# Altium footprint library PinHeader.PcbLib: 118 footprints (part 8 of 8)
Each footprint in its own frame and in the unit in brackets; x right, y up, seen from the top. Pads: shape width x height; smd on the part's side, far side on the other; paste and mask are expansions set on the pad; w line width, h text height; cw(c..) or ccw(c..) is an arc to the next point about the centre after c.
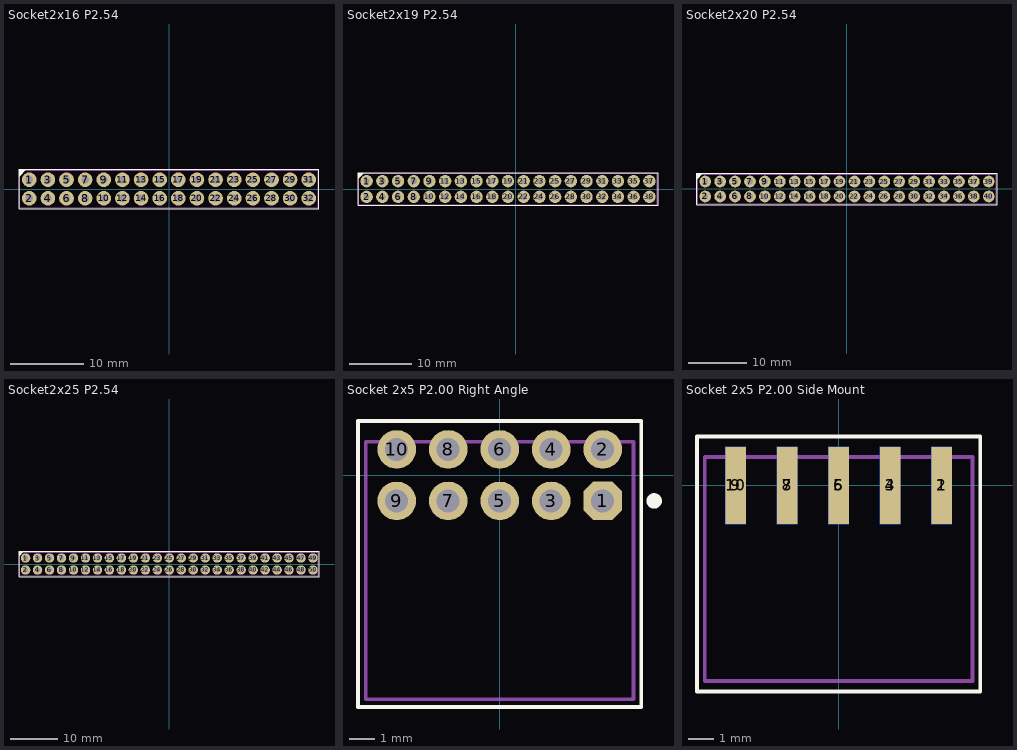
[diagram p7: the footprints below, top view; thin cyan lines are the x and y axes]

## Socket2x16 P2.54 [mm] "Receptacle connector"
height 7
pads (32):
  round 2 hole 1: 1(-19.05,1.27) 2(-19.05,-1.27) 3(-16.51,1.27) 4(-16.51,-1.27) 5(-13.97,1.27) 6(-13.97,-1.27) 7(-11.43,1.27) 8(-11.43,-1.27) 9(-8.89,1.27) 10(-8.89,-1.27) 11(-6.35,1.27) 12(-6.35,-1.27) 13(-3.81,1.27) 14(-3.81,-1.27) 15(-1.27,1.27) 16(-1.27,-1.27) 17(1.27,1.27) 18(1.27,-1.27) 19(3.81,1.27) 20(3.81,-1.27) 21(6.35,1.27) 22(6.35,-1.27) 23(8.89,1.27) 24(8.89,-1.27) 25(11.43,1.27) 26(11.43,-1.27) 27(13.97,1.27) 28(13.97,-1.27) 29(16.51,1.27) 30(16.51,-1.27) 31(19.05,1.27) 32(19.05,-1.27)
Top Overlay:
  region: -20.447,2.667 -19.431,2.667 -20.447,1.651
  lines w0.15: -20.447,-2.667 20.447,-2.667 20.447,2.667 -20.447,2.667 -20.447,-2.667
Mechanical 13:
  lines w0.15: -20.32,-2.54 -20.32,2.54 20.32,2.54 20.32,-2.54 -20.32,-2.54
3D body: height 0, standoff -2.5, extent 18.75,-1.57 19.35,-0.97
3D body: height 0, standoff -2.5, extent 16.21,-1.57 16.81,-0.97
3D body: height 0, standoff -2.5, extent 13.67,-1.57 14.27,-0.97
3D body: height 0, standoff -2.5, extent 11.13,-1.57 11.73,-0.97
3D body: height 0, standoff -2.5, extent 8.59,-1.57 9.19,-0.97
3D body: height 0, standoff -2.5, extent 6.05,-1.57 6.65,-0.97
3D body: height 0, standoff -2.5, extent 3.51,-1.57 4.11,-0.97
3D body: height 0, standoff -2.5, extent 0.97,-1.57 1.57,-0.97
3D body: height 0, standoff -2.5, extent -1.57,-1.57 -0.97,-0.97
3D body: height 0, standoff -2.5, extent -4.11,-1.57 -3.51,-0.97
3D body: height 0, standoff -2.5, extent -6.65,-1.57 -6.05,-0.97
3D body: height 0, standoff -2.5, extent -9.19,-1.57 -8.59,-0.97
3D body: height 0, standoff -2.5, extent -11.73,-1.57 -11.13,-0.97
3D body: height 0, standoff -2.5, extent -14.27,-1.57 -13.67,-0.97
3D body: height 0, standoff -2.5, extent -16.81,-1.57 -16.21,-0.97
3D body: height 0, standoff -2.5, extent -19.35,-1.57 -18.75,-0.97
3D body: height 0, standoff -2.5, extent 18.75,0.97 19.35,1.57
3D body: height 0, standoff -2.5, extent 16.21,0.97 16.81,1.57
3D body: height 0, standoff -2.5, extent 13.67,0.97 14.27,1.57
3D body: height 0, standoff -2.5, extent 11.13,0.97 11.73,1.57
3D body: height 0, standoff -2.5, extent 8.59,0.97 9.19,1.57
3D body: height 0, standoff -2.5, extent 6.05,0.97 6.65,1.57
3D body: height 0, standoff -2.5, extent 3.51,0.97 4.11,1.57
3D body: height 0, standoff -2.5, extent 0.97,0.97 1.57,1.57
3D body: height 0, standoff -2.5, extent -1.57,0.97 -0.97,1.57
3D body: height 0, standoff -2.5, extent -4.11,0.97 -3.51,1.57
3D body: height 0, standoff -2.5, extent -6.65,0.97 -6.05,1.57
3D body: height 0, standoff -2.5, extent -9.19,0.97 -8.59,1.57
3D body: height 0, standoff -2.5, extent -11.73,0.97 -11.13,1.57
3D body: height 0, standoff -2.5, extent -14.27,0.97 -13.67,1.57
3D body: height 0, standoff -2.5, extent -16.81,0.97 -16.21,1.57
3D body: height 0, standoff -2.5, extent -19.35,0.97 -18.75,1.57
3D body: height 7.01, standoff 0, extent 18.3,-2.02 19.8,-0.52
3D body: height 7.01, standoff 0, extent 15.76,-2.02 17.26,-0.52
3D body: height 7.01, standoff 0, extent 13.22,-2.02 14.72,-0.52
3D body: height 7.01, standoff 0, extent 10.68,-2.02 12.18,-0.52
3D body: height 7.01, standoff 0, extent 8.14,-2.02 9.64,-0.52
3D body: height 7.01, standoff 0, extent 5.6,-2.02 7.1,-0.52
3D body: height 7.01, standoff 0, extent 3.06,-2.02 4.56,-0.52
3D body: height 7.01, standoff 0, extent 0.52,-2.02 2.02,-0.52
3D body: height 7.01, standoff 0, extent -2.02,-2.02 -0.52,-0.52
3D body: height 7.01, standoff 0, extent -4.56,-2.02 -3.06,-0.52
3D body: height 7.01, standoff 0, extent -7.1,-2.02 -5.6,-0.52
3D body: height 7.01, standoff 0, extent -9.64,-2.02 -8.14,-0.52
3D body: height 7.01, standoff 0, extent -12.18,-2.02 -10.68,-0.52
3D body: height 7.01, standoff 0, extent -14.72,-2.02 -13.22,-0.52
3D body: height 7.01, standoff 0, extent -17.26,-2.02 -15.76,-0.52
3D body: height 7.01, standoff 0, extent -19.8,-2.02 -18.3,-0.52
3D body: height 7.01, standoff 0, extent 18.3,0.52 19.8,2.02
3D body: height 7.01, standoff 0, extent 15.76,0.52 17.26,2.02
3D body: height 7.01, standoff 0, extent 13.22,0.52 14.72,2.02
3D body: height 7.01, standoff 0, extent 10.68,0.52 12.18,2.02
3D body: height 7.01, standoff 0, extent 8.14,0.52 9.64,2.02
3D body: height 7.01, standoff 0, extent 5.6,0.52 7.1,2.02
3D body: height 7.01, standoff 0, extent 3.06,0.52 4.56,2.02
3D body: height 7.01, standoff 0, extent 0.52,0.52 2.02,2.02
3D body: height 7.01, standoff 0, extent -2.02,0.52 -0.52,2.02
3D body: height 7.01, standoff 0, extent -4.56,0.52 -3.06,2.02
3D body: height 7.01, standoff 0, extent -7.1,0.52 -5.6,2.02
3D body: height 7.01, standoff 0, extent -9.64,0.52 -8.14,2.02
3D body: height 7.01, standoff 0, extent -12.18,0.52 -10.68,2.02
3D body: height 7.01, standoff 0, extent -14.72,0.52 -13.22,2.02
3D body: height 7.01, standoff 0, extent -17.26,0.52 -15.76,2.02
3D body: height 7.01, standoff 0, extent -19.8,0.52 -18.3,2.02
3D body: height 7, standoff 0, extent -20.32,-2.54 20.32,2.54

## Socket2x19 P2.54 [mm] "Receptacle connector"
height 7
pads (38):
  round 2 hole 1: 1(-24.13,1.27) 2(-24.13,-1.27) 3(-21.59,1.27) 4(-21.59,-1.27) 5(-19.05,1.27) 6(-19.05,-1.27) 7(-16.51,1.27) 8(-16.51,-1.27) 9(-13.97,1.27) 10(-13.97,-1.27) 11(-11.43,1.27) 12(-11.43,-1.27) 13(-8.89,1.27) 14(-8.89,-1.27) 15(-6.35,1.27) 16(-6.35,-1.27) 17(-3.81,1.27) 18(-3.81,-1.27) 19(-1.27,1.27) 20(-1.27,-1.27) 21(1.27,1.27) 22(1.27,-1.27) 23(3.81,1.27) 24(3.81,-1.27) 25(6.35,1.27) 26(6.35,-1.27) 27(8.89,1.27) 28(8.89,-1.27) 29(11.43,1.27) 30(11.43,-1.27) 31(13.97,1.27) 32(13.97,-1.27) 33(16.51,1.27) 34(16.51,-1.27) 35(19.05,1.27) 36(19.05,-1.27) 37(21.59,1.27) 38(21.59,-1.27)
Top Overlay:
  region: -25.527,2.667 -24.511,2.667 -25.527,1.651
  lines w0.15: -25.527,-2.667 -25.527,2.667 22.987,2.667 22.987,-2.667 -25.527,-2.667
Mechanical 13:
  lines w0.15: -25.4,-2.54 22.86,-2.54 22.86,2.54 -25.4,2.54 -25.4,-2.54
3D body: height 7, standoff 0, extent -25.4,-2.54 22.86,2.54
3D body: height 7.01, standoff 0, extent -24.88,0.52 -23.38,2.02
3D body: height 7.01, standoff 0, extent -22.34,0.52 -20.84,2.02
3D body: height 7.01, standoff 0, extent -19.8,0.52 -18.3,2.02
3D body: height 7.01, standoff 0, extent -17.26,0.52 -15.76,2.02
3D body: height 7.01, standoff 0, extent -14.72,0.52 -13.22,2.02
3D body: height 7.01, standoff 0, extent -12.18,0.52 -10.68,2.02
3D body: height 7.01, standoff 0, extent -9.64,0.52 -8.14,2.02
3D body: height 7.01, standoff 0, extent -7.1,0.52 -5.6,2.02
3D body: height 7.01, standoff 0, extent -4.56,0.52 -3.06,2.02
3D body: height 7.01, standoff 0, extent -2.02,0.52 -0.52,2.02
3D body: height 7.01, standoff 0, extent 0.52,0.52 2.02,2.02
3D body: height 7.01, standoff 0, extent 3.06,0.52 4.56,2.02
3D body: height 7.01, standoff 0, extent 5.6,0.52 7.1,2.02
3D body: height 7.01, standoff 0, extent 8.14,0.52 9.64,2.02
3D body: height 7.01, standoff 0, extent 10.68,0.52 12.18,2.02
3D body: height 7.01, standoff 0, extent 13.22,0.52 14.72,2.02
3D body: height 7.01, standoff 0, extent -24.88,-2.02 -23.38,-0.52
3D body: height 7.01, standoff 0, extent -22.34,-2.02 -20.84,-0.52
3D body: height 7.01, standoff 0, extent -19.8,-2.02 -18.3,-0.52
3D body: height 7.01, standoff 0, extent -17.26,-2.02 -15.76,-0.52
3D body: height 7.01, standoff 0, extent -14.72,-2.02 -13.22,-0.52
3D body: height 7.01, standoff 0, extent -12.18,-2.02 -10.68,-0.52
3D body: height 7.01, standoff 0, extent -9.64,-2.02 -8.14,-0.52
3D body: height 7.01, standoff 0, extent -7.1,-2.02 -5.6,-0.52
3D body: height 7.01, standoff 0, extent -4.56,-2.02 -3.06,-0.52
3D body: height 7.01, standoff 0, extent -2.02,-2.02 -0.52,-0.52
3D body: height 7.01, standoff 0, extent 0.52,-2.02 2.02,-0.52
3D body: height 7.01, standoff 0, extent 3.06,-2.02 4.56,-0.52
3D body: height 7.01, standoff 0, extent 5.6,-2.02 7.1,-0.52
3D body: height 7.01, standoff 0, extent 8.14,-2.02 9.64,-0.52
3D body: height 7.01, standoff 0, extent 10.68,-2.02 12.18,-0.52
3D body: height 7.01, standoff 0, extent 13.22,-2.02 14.72,-0.52
3D body: height 0, standoff -2.5, extent -24.43,0.97 -23.83,1.57
3D body: height 0, standoff -2.5, extent -21.89,0.97 -21.29,1.57
3D body: height 0, standoff -2.5, extent -19.35,0.97 -18.75,1.57
3D body: height 0, standoff -2.5, extent -16.81,0.97 -16.21,1.57
3D body: height 0, standoff -2.5, extent -14.27,0.97 -13.67,1.57
3D body: height 0, standoff -2.5, extent -11.73,0.97 -11.13,1.57
3D body: height 0, standoff -2.5, extent -9.19,0.97 -8.59,1.57
3D body: height 0, standoff -2.5, extent -6.65,0.97 -6.05,1.57
3D body: height 0, standoff -2.5, extent -4.11,0.97 -3.51,1.57
3D body: height 0, standoff -2.5, extent -1.57,0.97 -0.97,1.57
3D body: height 0, standoff -2.5, extent 0.97,0.97 1.57,1.57
3D body: height 0, standoff -2.5, extent 3.51,0.97 4.11,1.57
3D body: height 0, standoff -2.5, extent 6.05,0.97 6.65,1.57
3D body: height 0, standoff -2.5, extent 8.59,0.97 9.19,1.57
3D body: height 0, standoff -2.5, extent 11.13,0.97 11.73,1.57
3D body: height 0, standoff -2.5, extent 13.67,0.97 14.27,1.57
3D body: height 0, standoff -2.5, extent -24.43,-1.57 -23.83,-0.97
3D body: height 0, standoff -2.5, extent -21.89,-1.57 -21.29,-0.97
3D body: height 0, standoff -2.5, extent -19.35,-1.57 -18.75,-0.97
3D body: height 0, standoff -2.5, extent -16.81,-1.57 -16.21,-0.97
3D body: height 0, standoff -2.5, extent -14.27,-1.57 -13.67,-0.97
3D body: height 0, standoff -2.5, extent -11.73,-1.57 -11.13,-0.97
3D body: height 0, standoff -2.5, extent -9.19,-1.57 -8.59,-0.97
3D body: height 0, standoff -2.5, extent -6.65,-1.57 -6.05,-0.97
3D body: height 0, standoff -2.5, extent -4.11,-1.57 -3.51,-0.97
3D body: height 0, standoff -2.5, extent -1.57,-1.57 -0.97,-0.97
3D body: height 0, standoff -2.5, extent 0.97,-1.57 1.57,-0.97
3D body: height 0, standoff -2.5, extent 3.51,-1.57 4.11,-0.97
3D body: height 0, standoff -2.5, extent 6.05,-1.57 6.65,-0.97
3D body: height 0, standoff -2.5, extent 8.59,-1.57 9.19,-0.97
3D body: height 0, standoff -2.5, extent 11.13,-1.57 11.73,-0.97
3D body: height 0, standoff -2.5, extent 13.67,-1.57 14.27,-0.97
3D body: height 7.01, standoff 0, extent 15.76,0.52 17.26,2.02
3D body: height 7.01, standoff 0, extent 18.3,0.52 19.8,2.02
3D body: height 7.01, standoff 0, extent 20.84,0.52 22.34,2.02
3D body: height 7.01, standoff 0, extent 15.76,-2.02 17.26,-0.52
3D body: height 7.01, standoff 0, extent 18.3,-2.02 19.8,-0.52
3D body: height 7.01, standoff 0, extent 20.84,-2.02 22.34,-0.52
3D body: height 0, standoff -2.5, extent 16.21,0.97 16.81,1.57
3D body: height 0, standoff -2.5, extent 18.75,0.97 19.35,1.57
3D body: height 0, standoff -2.5, extent 21.29,0.97 21.89,1.57
3D body: height 0, standoff -2.5, extent 16.21,-1.57 16.81,-0.97
3D body: height 0, standoff -2.5, extent 18.75,-1.57 19.35,-0.97
3D body: height 0, standoff -2.5, extent 21.29,-1.57 21.89,-0.97

## Socket2x20 P2.54 [mm] "Receptacle connector"
height 7
pads (40):
  round 2 hole 1: 1(-24.13,1.27) 2(-24.13,-1.27) 3(-21.59,1.27) 4(-21.59,-1.27) 5(-19.05,1.27) 6(-19.05,-1.27) 7(-16.51,1.27) 8(-16.51,-1.27) 9(-13.97,1.27) 10(-13.97,-1.27) 11(-11.43,1.27) 12(-11.43,-1.27) 13(-8.89,1.27) 14(-8.89,-1.27) 15(-6.35,1.27) 16(-6.35,-1.27) 17(-3.81,1.27) 18(-3.81,-1.27) 19(-1.27,1.27) 20(-1.27,-1.27) 21(1.27,1.27) 22(1.27,-1.27) 23(3.81,1.27) 24(3.81,-1.27) 25(6.35,1.27) 26(6.35,-1.27) 27(8.89,1.27) 28(8.89,-1.27) 29(11.43,1.27) 30(11.43,-1.27) 31(13.97,1.27) 32(13.97,-1.27) 33(16.51,1.27) 34(16.51,-1.27) 35(19.05,1.27) 36(19.05,-1.27) 37(21.59,1.27) 38(21.59,-1.27) 39(24.13,1.27) 40(24.13,-1.27)
Top Overlay:
  region: -25.527,2.667 -24.511,2.667 -25.527,1.651
  lines w0.15: -25.527,-2.667 -25.527,2.667 25.527,2.667 25.527,-2.667 -25.527,-2.667
Mechanical 13:
  lines w0.15: -25.4,-2.54 25.4,-2.54 25.4,2.54 -25.4,2.54 -25.4,-2.54
3D body: height 7, standoff 0, extent -25.4,-2.54 25.4,2.54
3D body: height 7.01, standoff 0, extent -24.88,0.52 -23.38,2.02
3D body: height 7.01, standoff 0, extent -22.34,0.52 -20.84,2.02
3D body: height 7.01, standoff 0, extent -19.8,0.52 -18.3,2.02
3D body: height 7.01, standoff 0, extent -17.26,0.52 -15.76,2.02
3D body: height 7.01, standoff 0, extent -14.72,0.52 -13.22,2.02
3D body: height 7.01, standoff 0, extent -12.18,0.52 -10.68,2.02
3D body: height 7.01, standoff 0, extent -9.64,0.52 -8.14,2.02
3D body: height 7.01, standoff 0, extent -7.1,0.52 -5.6,2.02
3D body: height 7.01, standoff 0, extent -4.56,0.52 -3.06,2.02
3D body: height 7.01, standoff 0, extent -2.02,0.52 -0.52,2.02
3D body: height 7.01, standoff 0, extent 0.52,0.52 2.02,2.02
3D body: height 7.01, standoff 0, extent 3.06,0.52 4.56,2.02
3D body: height 7.01, standoff 0, extent 5.6,0.52 7.1,2.02
3D body: height 7.01, standoff 0, extent 8.14,0.52 9.64,2.02
3D body: height 7.01, standoff 0, extent 10.68,0.52 12.18,2.02
3D body: height 7.01, standoff 0, extent 13.22,0.52 14.72,2.02
3D body: height 7.01, standoff 0, extent -24.88,-2.02 -23.38,-0.52
3D body: height 7.01, standoff 0, extent -22.34,-2.02 -20.84,-0.52
3D body: height 7.01, standoff 0, extent -19.8,-2.02 -18.3,-0.52
3D body: height 7.01, standoff 0, extent -17.26,-2.02 -15.76,-0.52
3D body: height 7.01, standoff 0, extent -14.72,-2.02 -13.22,-0.52
3D body: height 7.01, standoff 0, extent -12.18,-2.02 -10.68,-0.52
3D body: height 7.01, standoff 0, extent -9.64,-2.02 -8.14,-0.52
3D body: height 7.01, standoff 0, extent -7.1,-2.02 -5.6,-0.52
3D body: height 7.01, standoff 0, extent -4.56,-2.02 -3.06,-0.52
3D body: height 7.01, standoff 0, extent -2.02,-2.02 -0.52,-0.52
3D body: height 7.01, standoff 0, extent 0.52,-2.02 2.02,-0.52
3D body: height 7.01, standoff 0, extent 3.06,-2.02 4.56,-0.52
3D body: height 7.01, standoff 0, extent 5.6,-2.02 7.1,-0.52
3D body: height 7.01, standoff 0, extent 8.14,-2.02 9.64,-0.52
3D body: height 7.01, standoff 0, extent 10.68,-2.02 12.18,-0.52
3D body: height 7.01, standoff 0, extent 13.22,-2.02 14.72,-0.52
3D body: height 0, standoff -2.5, extent -24.43,0.97 -23.83,1.57
3D body: height 0, standoff -2.5, extent -21.89,0.97 -21.29,1.57
3D body: height 0, standoff -2.5, extent -19.35,0.97 -18.75,1.57
3D body: height 0, standoff -2.5, extent -16.81,0.97 -16.21,1.57
3D body: height 0, standoff -2.5, extent -14.27,0.97 -13.67,1.57
3D body: height 0, standoff -2.5, extent -11.73,0.97 -11.13,1.57
3D body: height 0, standoff -2.5, extent -9.19,0.97 -8.59,1.57
3D body: height 0, standoff -2.5, extent -6.65,0.97 -6.05,1.57
3D body: height 0, standoff -2.5, extent -4.11,0.97 -3.51,1.57
3D body: height 0, standoff -2.5, extent -1.57,0.97 -0.97,1.57
3D body: height 0, standoff -2.5, extent 0.97,0.97 1.57,1.57
3D body: height 0, standoff -2.5, extent 3.51,0.97 4.11,1.57
3D body: height 0, standoff -2.5, extent 6.05,0.97 6.65,1.57
3D body: height 0, standoff -2.5, extent 8.59,0.97 9.19,1.57
3D body: height 0, standoff -2.5, extent 11.13,0.97 11.73,1.57
3D body: height 0, standoff -2.5, extent 13.67,0.97 14.27,1.57
3D body: height 0, standoff -2.5, extent -24.43,-1.57 -23.83,-0.97
3D body: height 0, standoff -2.5, extent -21.89,-1.57 -21.29,-0.97
3D body: height 0, standoff -2.5, extent -19.35,-1.57 -18.75,-0.97
3D body: height 0, standoff -2.5, extent -16.81,-1.57 -16.21,-0.97
3D body: height 0, standoff -2.5, extent -14.27,-1.57 -13.67,-0.97
3D body: height 0, standoff -2.5, extent -11.73,-1.57 -11.13,-0.97
3D body: height 0, standoff -2.5, extent -9.19,-1.57 -8.59,-0.97
3D body: height 0, standoff -2.5, extent -6.65,-1.57 -6.05,-0.97
3D body: height 0, standoff -2.5, extent -4.11,-1.57 -3.51,-0.97
3D body: height 0, standoff -2.5, extent -1.57,-1.57 -0.97,-0.97
3D body: height 0, standoff -2.5, extent 0.97,-1.57 1.57,-0.97
3D body: height 0, standoff -2.5, extent 3.51,-1.57 4.11,-0.97
3D body: height 0, standoff -2.5, extent 6.05,-1.57 6.65,-0.97
3D body: height 0, standoff -2.5, extent 8.59,-1.57 9.19,-0.97
3D body: height 0, standoff -2.5, extent 11.13,-1.57 11.73,-0.97
3D body: height 0, standoff -2.5, extent 13.67,-1.57 14.27,-0.97
3D body: height 7.01, standoff 0, extent 15.76,0.52 17.26,2.02
3D body: height 7.01, standoff 0, extent 18.3,0.52 19.8,2.02
3D body: height 7.01, standoff 0, extent 20.84,0.52 22.34,2.02
3D body: height 7.01, standoff 0, extent 15.76,-2.02 17.26,-0.52
3D body: height 7.01, standoff 0, extent 18.3,-2.02 19.8,-0.52
3D body: height 7.01, standoff 0, extent 20.84,-2.02 22.34,-0.52
3D body: height 0, standoff -2.5, extent 16.21,0.97 16.81,1.57
3D body: height 0, standoff -2.5, extent 18.75,0.97 19.35,1.57
3D body: height 0, standoff -2.5, extent 21.29,0.97 21.89,1.57
3D body: height 0, standoff -2.5, extent 16.21,-1.57 16.81,-0.97
3D body: height 0, standoff -2.5, extent 18.75,-1.57 19.35,-0.97
3D body: height 0, standoff -2.5, extent 21.29,-1.57 21.89,-0.97
3D body: height 0, standoff -2.5, extent 23.83,-1.57 24.43,-0.97
3D body: height 0, standoff -2.5, extent 23.83,0.97 24.43,1.57
3D body: height 7.01, standoff 0, extent 23.38,-2.02 24.88,-0.52
3D body: height 7.01, standoff 0, extent 23.38,0.52 24.88,2.02

## Socket2x25 P2.54 [mm] "Receptacle connector"
height 7
pads (50):
  round 2 hole 1: 1(-30.48,1.27) 2(-30.48,-1.27) 3(-27.94,1.27) 4(-27.94,-1.27) 5(-25.4,1.27) 6(-25.4,-1.27) 7(-22.86,1.27) 8(-22.86,-1.27) 9(-20.32,1.27) 10(-20.32,-1.27) 11(-17.78,1.27) 12(-17.78,-1.27) 13(-15.24,1.27) 14(-15.24,-1.27) 15(-12.7,1.27) 16(-12.7,-1.27) 17(-10.16,1.27) 18(-10.16,-1.27) 19(-7.62,1.27) 20(-7.62,-1.27) 21(-5.08,1.27) 22(-5.08,-1.27) 23(-2.54,1.27) 24(-2.54,-1.27) 25(0,1.27) 26(0,-1.27) 27(2.54,1.27) 28(2.54,-1.27) 29(5.08,1.27) 30(5.08,-1.27) 31(7.62,1.27) 32(7.62,-1.27) 33(10.16,1.27) 34(10.16,-1.27) 35(12.7,1.27) 36(12.7,-1.27) 37(15.24,1.27) 38(15.24,-1.27) 39(17.78,1.27) 40(17.78,-1.27) 41(20.32,1.27) 42(20.32,-1.27) 43(22.86,1.27) 44(22.86,-1.27) 45(25.4,1.27) 46(25.4,-1.27) 47(27.94,1.27) 48(27.94,-1.27) 49(30.48,1.27) 50(30.48,-1.27)
Top Overlay:
  region: -31.877,2.667 -30.861,2.667 -31.877,1.651
  lines w0.15: -31.877,-2.667 31.75,-2.667 31.75,2.667 -31.877,2.667 -31.877,-2.667
Mechanical 13:
  lines w0.15: -31.75,-2.54 -31.75,2.54 31.623,2.54 31.623,-2.54 -31.75,-2.54
3D body: height 7.01, standoff 0, extent 29.73,0.52 31.23,2.02
3D body: height 0, standoff -2.5, extent 30.18,0.97 30.78,1.57
3D body: height 7.01, standoff 0, extent 29.73,-2.02 31.23,-0.52
3D body: height 0, standoff -2.5, extent 30.18,-1.57 30.78,-0.97
3D body: height 7.01, standoff 0, extent 27.19,-2.02 28.69,-0.52
3D body: height 0, standoff -2.5, extent 27.64,-1.57 28.24,-0.97
3D body: height 7.01, standoff 0, extent 27.19,0.52 28.69,2.02
3D body: height 0, standoff -2.5, extent 27.64,0.97 28.24,1.57
3D body: height 7.01, standoff 0, extent 24.65,0.52 26.15,2.02
3D body: height 0, standoff -2.5, extent 25.1,0.97 25.7,1.57
3D body: height 7.01, standoff 0, extent 24.65,-2.02 26.15,-0.52
3D body: height 0, standoff -2.5, extent 25.1,-1.57 25.7,-0.97
3D body: height 7.01, standoff 0, extent 22.11,-2.02 23.61,-0.52
3D body: height 0, standoff -2.5, extent 22.56,-1.57 23.16,-0.97
3D body: height 7.01, standoff 0, extent 22.11,0.52 23.61,2.02
3D body: height 0, standoff -2.5, extent 22.56,0.97 23.16,1.57
3D body: height 7.01, standoff 0, extent 19.57,0.52 21.07,2.02
3D body: height 0, standoff -2.5, extent 20.02,0.97 20.62,1.57
3D body: height 7.01, standoff 0, extent 19.57,-2.02 21.07,-0.52
3D body: height 0, standoff -2.5, extent 20.02,-1.57 20.62,-0.97
3D body: height 7.01, standoff 0, extent 17.03,0.52 18.53,2.02
3D body: height 7.01, standoff 0, extent 17.03,-2.02 18.53,-0.52
3D body: height 0, standoff -2.5, extent 17.48,0.97 18.08,1.57
3D body: height 0, standoff -2.5, extent 17.48,-1.57 18.08,-0.97
3D body: height 0, standoff -2.5, extent 14.94,-1.57 15.54,-0.97
3D body: height 0, standoff -2.5, extent 12.4,-1.57 13,-0.97
3D body: height 0, standoff -2.5, extent 9.86,-1.57 10.46,-0.97
3D body: height 0, standoff -2.5, extent 14.94,0.97 15.54,1.57
3D body: height 0, standoff -2.5, extent 12.4,0.97 13,1.57
3D body: height 0, standoff -2.5, extent 9.86,0.97 10.46,1.57
3D body: height 7.01, standoff 0, extent 14.49,-2.02 15.99,-0.52
3D body: height 7.01, standoff 0, extent 11.95,-2.02 13.45,-0.52
3D body: height 7.01, standoff 0, extent 9.41,-2.02 10.91,-0.52
3D body: height 7.01, standoff 0, extent 14.49,0.52 15.99,2.02
3D body: height 7.01, standoff 0, extent 11.95,0.52 13.45,2.02
3D body: height 7.01, standoff 0, extent 9.41,0.52 10.91,2.02
3D body: height 0, standoff -2.5, extent 7.32,-1.57 7.92,-0.97
3D body: height 0, standoff -2.5, extent 4.78,-1.57 5.38,-0.97
3D body: height 0, standoff -2.5, extent 2.24,-1.57 2.84,-0.97
3D body: height 0, standoff -2.5, extent -0.3,-1.57 0.3,-0.97
3D body: height 0, standoff -2.5, extent -2.84,-1.57 -2.24,-0.97
3D body: height 0, standoff -2.5, extent -5.38,-1.57 -4.78,-0.97
3D body: height 0, standoff -2.5, extent -7.92,-1.57 -7.32,-0.97
3D body: height 0, standoff -2.5, extent -10.46,-1.57 -9.86,-0.97
3D body: height 0, standoff -2.5, extent -13,-1.57 -12.4,-0.97
3D body: height 0, standoff -2.5, extent -15.54,-1.57 -14.94,-0.97
3D body: height 0, standoff -2.5, extent -18.08,-1.57 -17.48,-0.97
3D body: height 0, standoff -2.5, extent -20.62,-1.57 -20.02,-0.97
3D body: height 0, standoff -2.5, extent -23.16,-1.57 -22.56,-0.97
3D body: height 0, standoff -2.5, extent -25.7,-1.57 -25.1,-0.97
3D body: height 0, standoff -2.5, extent -28.24,-1.57 -27.64,-0.97
3D body: height 0, standoff -2.5, extent -30.78,-1.57 -30.18,-0.97
3D body: height 0, standoff -2.5, extent 7.32,0.97 7.92,1.57
3D body: height 0, standoff -2.5, extent 4.78,0.97 5.38,1.57
3D body: height 0, standoff -2.5, extent 2.24,0.97 2.84,1.57
3D body: height 0, standoff -2.5, extent -0.3,0.97 0.3,1.57
3D body: height 0, standoff -2.5, extent -2.84,0.97 -2.24,1.57
3D body: height 0, standoff -2.5, extent -5.38,0.97 -4.78,1.57
3D body: height 0, standoff -2.5, extent -7.92,0.97 -7.32,1.57
3D body: height 0, standoff -2.5, extent -10.46,0.97 -9.86,1.57
3D body: height 0, standoff -2.5, extent -13,0.97 -12.4,1.57
3D body: height 0, standoff -2.5, extent -15.54,0.97 -14.94,1.57
3D body: height 0, standoff -2.5, extent -18.08,0.97 -17.48,1.57
3D body: height 0, standoff -2.5, extent -20.62,0.97 -20.02,1.57
3D body: height 0, standoff -2.5, extent -23.16,0.97 -22.56,1.57
3D body: height 0, standoff -2.5, extent -25.7,0.97 -25.1,1.57
3D body: height 0, standoff -2.5, extent -28.24,0.97 -27.64,1.57
3D body: height 0, standoff -2.5, extent -30.78,0.97 -30.18,1.57
3D body: height 7.01, standoff 0, extent 6.87,-2.02 8.37,-0.52
3D body: height 7.01, standoff 0, extent 4.33,-2.02 5.83,-0.52
3D body: height 7.01, standoff 0, extent 1.79,-2.02 3.29,-0.52
3D body: height 7.01, standoff 0, extent -0.75,-2.02 0.75,-0.52
3D body: height 7.01, standoff 0, extent -3.29,-2.02 -1.79,-0.52
3D body: height 7.01, standoff 0, extent -5.83,-2.02 -4.33,-0.52
3D body: height 7.01, standoff 0, extent -8.37,-2.02 -6.87,-0.52
3D body: height 7.01, standoff 0, extent -10.91,-2.02 -9.41,-0.52
3D body: height 7.01, standoff 0, extent -13.45,-2.02 -11.95,-0.52
3D body: height 7.01, standoff 0, extent -15.99,-2.02 -14.49,-0.52
3D body: height 7.01, standoff 0, extent -18.53,-2.02 -17.03,-0.52
3D body: height 7.01, standoff 0, extent -21.07,-2.02 -19.57,-0.52
3D body: height 7.01, standoff 0, extent -23.61,-2.02 -22.11,-0.52
3D body: height 7.01, standoff 0, extent -26.15,-2.02 -24.65,-0.52
3D body: height 7.01, standoff 0, extent -28.69,-2.02 -27.19,-0.52
3D body: height 7.01, standoff 0, extent -31.23,-2.02 -29.73,-0.52
3D body: height 7.01, standoff 0, extent 6.87,0.52 8.37,2.02
3D body: height 7.01, standoff 0, extent 4.33,0.52 5.83,2.02
3D body: height 7.01, standoff 0, extent 1.79,0.52 3.29,2.02
3D body: height 7.01, standoff 0, extent -0.75,0.52 0.75,2.02
3D body: height 7.01, standoff 0, extent -3.29,0.52 -1.79,2.02
3D body: height 7.01, standoff 0, extent -5.83,0.52 -4.33,2.02
3D body: height 7.01, standoff 0, extent -8.37,0.52 -6.87,2.02
3D body: height 7.01, standoff 0, extent -10.91,0.52 -9.41,2.02
3D body: height 7.01, standoff 0, extent -13.45,0.52 -11.95,2.02
3D body: height 7.01, standoff 0, extent -15.99,0.52 -14.49,2.02
3D body: height 7.01, standoff 0, extent -18.53,0.52 -17.03,2.02
3D body: height 7.01, standoff 0, extent -21.07,0.52 -19.57,2.02
3D body: height 7.01, standoff 0, extent -23.61,0.52 -22.11,2.02
3D body: height 7.01, standoff 0, extent -26.15,0.52 -24.65,2.02
3D body: height 7.01, standoff 0, extent -28.69,0.52 -27.19,2.02
3D body: height 7.01, standoff 0, extent -31.23,0.52 -29.73,2.02
3D body: height 7, standoff 0, extent -31.75,-2.54 31.623,2.54

## Socket 2x5 P2.00 Right Angle [mm] "Receptacle connector Samtec SQT-105-01-L-D-RA"
height 4
pads (10):
  oct 1.5x1.5 hole 0.9: 1(4,-1)
  round 1.5 hole 0.9: 2(4,1) 3(2,-1) 4(2,1) 5(0,-1) 6(0,1) 7(-2,-1) 8(-2,1) 9(-4,-1) 10(-4,1)
Top Overlay:
  circle w0.3: c6,-1 r0.15
  lines w0.15: -5.5,-9 -5.5,2.1 5.5,2.1 5.5,-9 -5.5,-9
Mechanical 13:
  lines w0.15: -5.2,-8.7 5.2,-8.7 5.2,1.3 -5.2,1.3 -5.2,-8.7
3D body "SQT-105-01-L-D-RA.stp": height 4.01, standoff -2.27, extent -5.149,-8.62 5.149,1.25

## Socket 2x5 P2.00 Side Mount [mm] "Receptacle connector Samtec SQT-105-01-L-D"
height 2
pads (10):
  rect 0.8x3 smd far side: 1(4,0) 3(2,0) 5(0,0) 7(-2,0) 9(-4,0)
  rect 0.8x3 smd: 2(4,0) 4(2,0) 6(0,0) 8(-2,0) 10(-4,0)
Top Overlay:
  lines w0.15: -5.5,-8 5.5,-8 5.5,1.9 -5.5,1.9 -5.5,-8
Bottom Overlay:
  circle w0.3: c6,0 r0.15
  lines w0.15: -5.5,-8 -5.5,1.9 5.5,1.9 5.5,-8 -5.5,-8
Mechanical 13:
  lines w0.15: -5.2,-7.6 -5.2,1.1 5.2,1.1 5.2,-7.6 -5.2,-7.6
3D body "SQT-105-01-L-D.stp": height 1.26, standoff -2.74, extent -5.148,-7.55 5.149,1.086